# Altium schematic symbol library CT3151-2.SchLib: 1 symbol
Pins are listed as number, name and electrical type; pins without a type are passive.

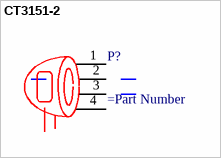
[diagram p0: symbol CT3151-2]

## CT3151-2
designator P?
=Description
pins: 1, 2, 3, 4